# Altium schematic symbol library ASP-134486-01.SchLib: 1 symbol
Pins are listed as number, name and electrical type; pins without a type are passive.

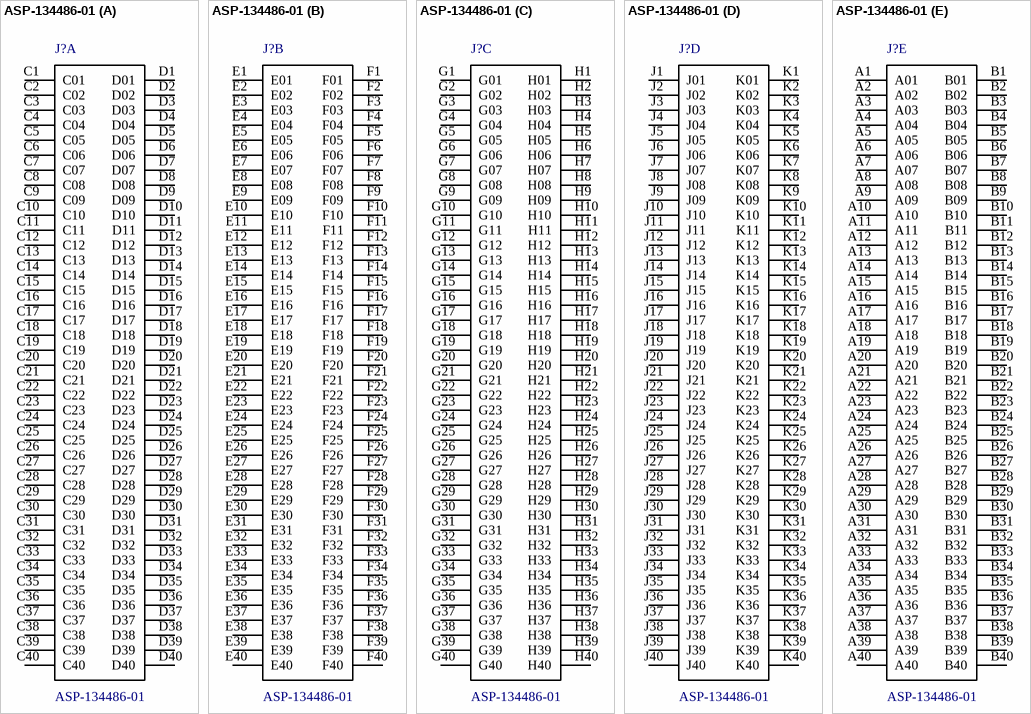
[diagram p0: symbol ASP-134486-01]

## ASP-134486-01
designator J?
/ 400 Position Connector Array, Female Sockets Surface Mount Gold /; MF: Samtec Inc.; MP: ASP-134486-01; Digi-Key_Purchase_URL: https://www.digikey.com/product-detail/en/samtec-inc/ASP-134486-01/SAM8728CT-ND/2135095?utm_source=snapeda&utm_medium=aggregator&utm_campaign=symbol; SnapEDA_Link: https://www.snapeda.com/parts/ASP-134486-01/Samtec%20Inc./view-part/898249/?ref=snap; Package: None; Digi-Key_Part_Number: SAM8728CT-ND; Value: *
footprint *SAMTEC_ASP-134486-01_ASP-134486-01(Primary)
part A pins: C1 C01, C2 C02, C3 C03, C4 C04, C5 C05, C6 C06, C7 C07, C8 C08, C9 C09, C10, C11, C12, C13, C14, C15, C16, C17, C18, C19, C20, C21, C22, C23, C24, C25, C26, C27, C28, C29, C30, C31, C32, C33, C34, C35, C36, C37, C38, C39, C40, D1 D01, D2 D02, D3 D03, D4 D04, D5 D05, D6 D06, D7 D07, D8 D08, D9 D09, D10, D11, D12, D13, D14, D15, D16, D17, D18, D19, D20, D21, D22, D23, D24, D25, D26, D27, D28, D29, D30, D31, D32, D33, D34, D35, D36, D37, D38, D39, D40
part B pins: E1 E01, E2 E02, E3 E03, E4 E04, E5 E05, E6 E06, E7 E07, E8 E08, E9 E09, E10, E11, E12, E13, E14, E15, E16, E17, E18, E19, E20, E21, E22, E23, E24, E25, E26, E27, E28, E29, E30, E31, E32, E33, E34, E35, E36, E37, E38, E39, E40, F1 F01, F2 F02, F3 F03, F4 F04, F5 F05, F6 F06, F7 F07, F8 F08, F9 F09, F10, F11, F12, F13, F14, F15, F16, F17, F18, F19, F20, F21, F22, F23, F24, F25, F26, F27, F28, F29, F30, F31, F32, F33, F34, F35, F36, F37, F38, F39, F40
part C pins: G1 G01, G2 G02, G3 G03, G4 G04, G5 G05, G6 G06, G7 G07, G8 G08, G9 G09, G10, G11, G12, G13, G14, G15, G16, G17, G18, G19, G20, G21, G22, G23, G24, G25, G26, G27, G28, G29, G30, G31, G32, G33, G34, G35, G36, G37, G38, G39, G40, H1 H01, H2 H02, H3 H03, H4 H04, H5 H05, H6 H06, H7 H07, H8 H08, H9 H09, H10, H11, H12, H13, H14, H15, H16, H17, H18, H19, H20, H21, H22, H23, H24, H25, H26, H27, H28, H29, H30, H31, H32, H33, H34, H35, H36, H37, H38, H39, H40
part D pins: J1 J01, J2 J02, J3 J03, J4 J04, J5 J05, J6 J06, J7 J07, J8 J08, J9 J09, J10, J11, J12, J13, J14, J15, J16, J17, J18, J19, J20, J21, J22, J23, J24, J25, J26, J27, J28, J29, J30, J31, J32, J33, J34, J35, J36, J37, J38, J39, J40, K1 K01, K2 K02, K3 K03, K4 K04, K5 K05, K6 K06, K7 K07, K8 K08, K9 K09, K10, K11, K12, K13, K14, K15, K16, K17, K18, K19, K20, K21, K22, K23, K24, K25, K26, K27, K28, K29, K30, K31, K32, K33, K34, K35, K36, K37, K38, K39, K40
part E pins: A1 A01, A2 A02, A3 A03, A4 A04, A5 A05, A6 A06, A7 A07, A8 A08, A9 A09, A10, A11, A12, A13, A14, A15, A16, A17, A18, A19, A20, A21, A22, A23, A24, A25, A26, A27, A28, A29, A30, A31, A32, A33, A34, A35, A36, A37, A38, A39, A40, B1 B01, B2 B02, B3 B03, B4 B04, B5 B05, B6 B06, B7 B07, B8 B08, B9 B09, B10, B11, B12, B13, B14, B15, B16, B17, B18, B19, B20, B21, B22, B23, B24, B25, B26, B27, B28, B29, B30, B31, B32, B33, B34, B35, B36, B37, B38, B39, B40